# Altium footprint library HD_SAMPLE_V1.4.PcbLib: 21 footprints (part 1 of 2)
Each footprint in its own frame and in the unit in brackets; x right, y up, seen from the top. Pads: shape width x height; smd on the part's side, far side on the other; paste and mask are expansions set on the pad; w line width, h text height; cw(c..) or ccw(c..) is an arc to the next point about the centre after c.
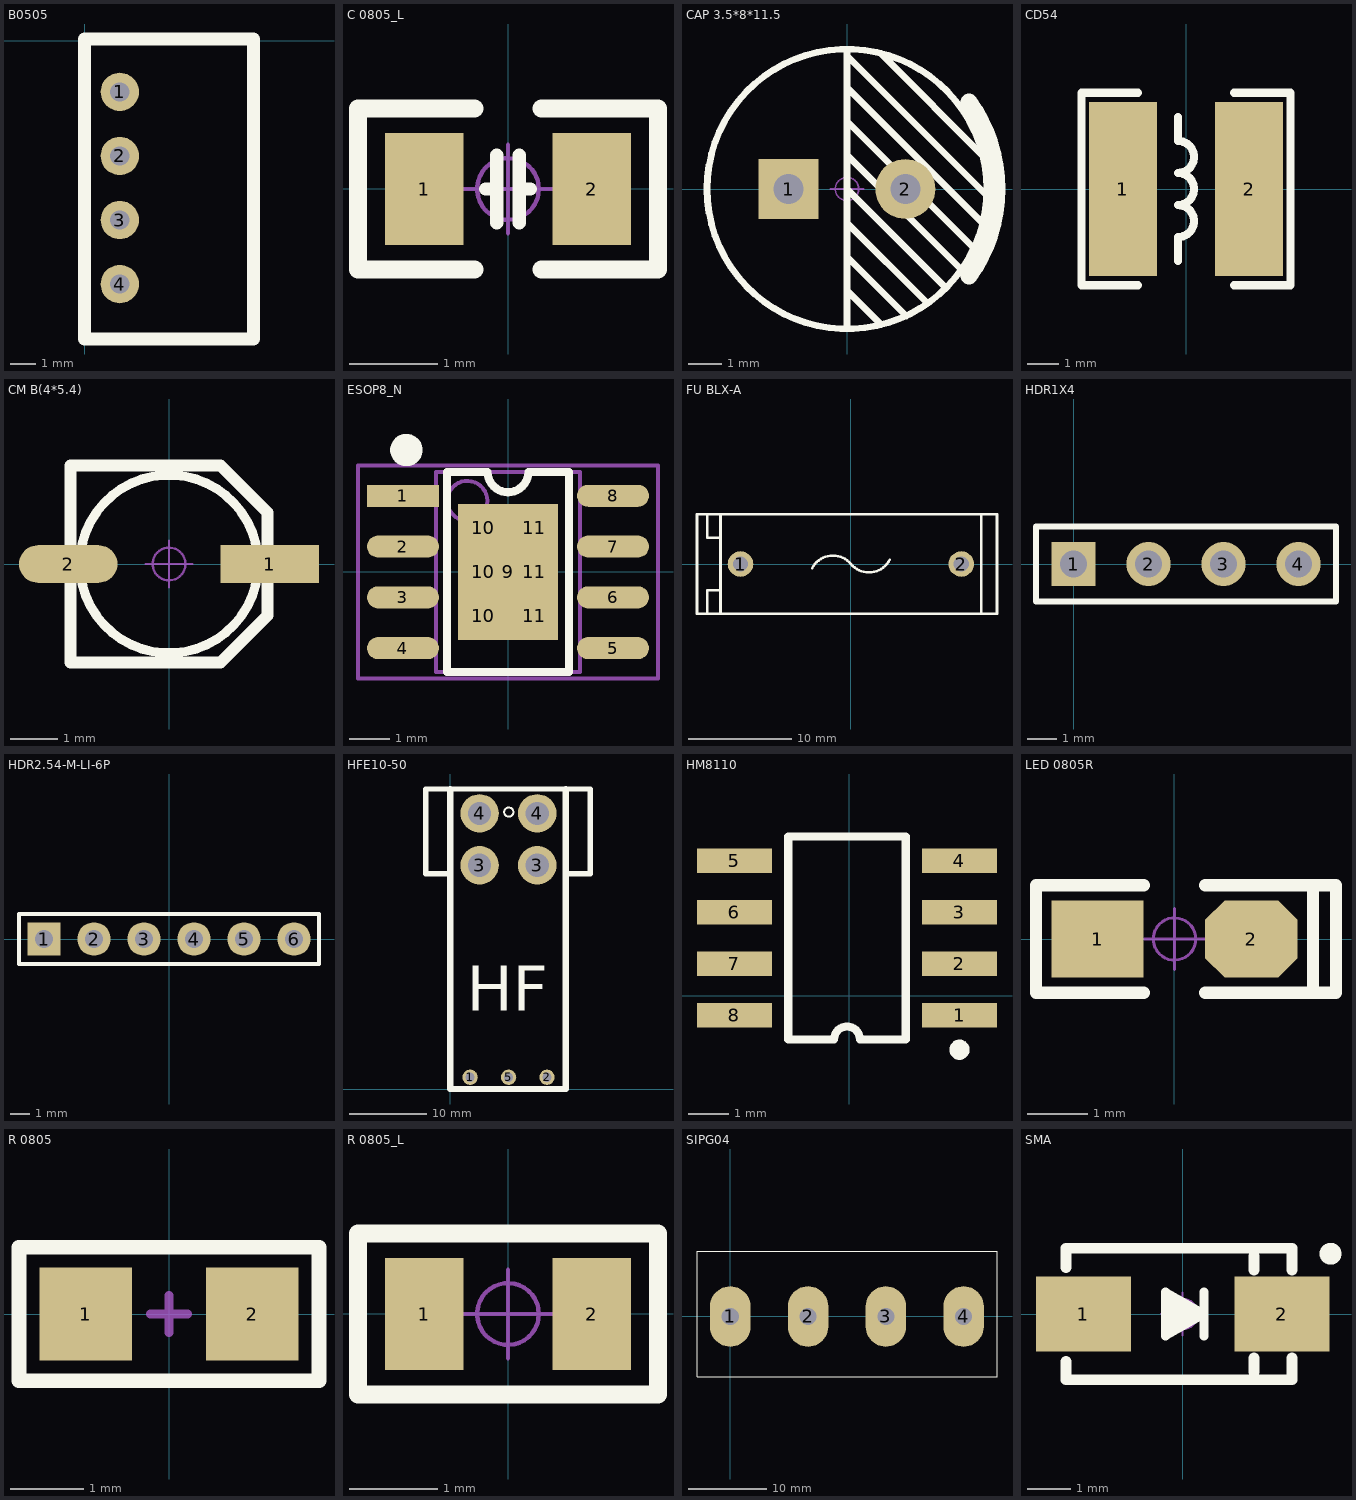
[diagram p0: the footprints below, top view; thin cyan lines are the x and y axes]

## B0505 [mil]
pads (4):
  round 60 hole 30: 1(55,-80) 2(55,-180) 3(55,-280) 4(55,-380)
Top Overlay:
  lines w19.68: -0.12,-465.83 263.66,-465.83 263.66,2.68 -0.12,2.68 -0.12,-465.83
3D body: height 379.92, standoff 0, extent -5,-470 265,0

## C 0805_L [mil] "无极性贴片电容                                        淘宝ID:黄晶宝石"
height 19.68
pads (2):
  rect 35x50 smd: 1(-37.4,0) 2(37.4,0)
Top Overlay:
  lines w6: -10,0 -5,0 ; -5,-15 -5,15 ; 5,-15 5,15 ; 5,0 10,0
  lines w8: -15,-36 -66.93,-36 -66.93,36 -15,36 ; 15,-36 66.93,-36 66.93,36 15,36
Mechanical 15:
  circle w1.97: c0,0 r13.78
  circle w1.97: c0,0 r13.78
  lines w1.97: -19.68,0 19.68,0 -19.68,0 ; 0,-19.68 0,19.68 0,-19.68
3D body "C 0805.STEP": height 20.08, standoff -0.39, extent -39.37,-24.02 39.37,24.02

## CAP 3.5*8*11.5 [mm] "脚距3.5mm直径8mm高度11.5mm"
pads (2):
  rect 1.8x1.8 hole 0.9: 1(-1.75,0)
  round 1.8 hole 0.9: 2(1.75,0)
Top Overlay:
  circle w0.2: c0,0 r4.2
  lines w0.2: 0,-4.191 0,4 ; 0,-3.048 1.016,-4.064 ; 0,-2.032 1.778,-3.81 ; 0,-1.016 2.413,-3.429 ; 0,0 2.921,-2.921 ; 0,1.016 3.429,-2.413 ; 0,2.032 3.81,-1.778 ; 0,3.048 4.064,-1.016 ; 0,4.191 0,4 ; 1.016,4.064 4.191,0.889 ; 4.191,-0.127 4.127,-0.127 0,4
  lines w0.504: 3.663,-2.616 ccw(c0,0) 3.663,2.616
Mechanical 15:
  circle w0.05: c0,0 r0.35
  lines w0.05: -0.5,0 0.5,0 ; 0,-0.5 0,0.5
3D body "CAP 3.5X8X11.5.STEP": height 11.53, standoff -3.38, extent -4,-4 4.01,4

## CD54 [mm] "5.8*5.2*4.5mm（长宽高）        淘宝ID:黄晶宝石"
height 2.54
pads (2):
  rect 2.15x5.5 smd: 1(-2,0) 2(2,0)
Top Overlay:
  lines w0.254: -1.524,-3.048 -3.302,-3.048 -3.302,3.048 -1.524,3.048 ; -0.254,-2.286 -0.254,-1.524 ccw(c-0.254,-1.016) -0.254,-0.508 ccw(c-0.254,0) -0.254,0.508 ccw(c-0.254,1.016) -0.254,1.524 -0.254,2.286 ; 1.524,-3.048 3.302,-3.048 3.302,3.048 1.524,3.048
3D body "CD54.STEP": height 4, standoff 0, extent -2.874,-2.5 2.874,2.5

## CM B(4*5.4) [mm] "贴片电解电容，直径4mm，高5.4mm"
height 2.54
pads (2):
  rect 2.1x0.8 smd: 1(2.15,0)
  oval 2.1x0.8 smd: 2(-2.15,0)
Top Overlay:
  circle w0.2: c0,0 r1.9
  lines w0.254: -2.1,-2.1 1.1,-2.1 2.1,-1.1 2.1,1.1 1.1,2.1 -2.1,2.1 -2.1,-2.1
Mechanical 15:
  circle w0.05: c0,0 r0.35
  lines w0.05: -0.5,0 0.5,0 ; 0,-0.5 0,0.5
3D body "CM B(4X5.4).STEP": height 5.4, standoff -0.01, extent -2.3,-2.125 2.3,2.175

## ESOP8_N [mm] "5*6*1.8mm（长宽高）"
height 1.75
pads (15):
  rect 1.8x0.55 smd: 1(-2.625,1.905)
  oval 1.8x0.55 smd: 2(-2.625,0.635) 3(-2.625,-0.635) 4(-2.625,-1.905) 5(2.625,-1.905) 6(2.625,-0.635) 7(2.625,0.635) 8(2.625,1.905)
  rect 2.5x3.4 smd paste-2: 9(0,0)
  rect 0.9x0.7 on Top Paste: 10(-0.625,-1.1) 10(-0.625,0) 10(-0.625,1.1) 11(0.65,-1.1) 11(0.65,0) 11(0.65,1.1)
Top Overlay:
  circle w0.5: c-2.54,3.048 r0.155
  lines w0.2: -1.524,2.5 -1.524,-2.5 1.524,-2.5 1.524,2.5
  lines w0.203: -1.524,2.5 -0.508,2.5 ccw(c0,2.5) 0,1.992 ccw(c0,2.5) 0.508,2.5 1.524,2.5
Mechanical 13:
  circle w0.1: c-1.016,1.778 r0.5
  lines w0.1: -1.8,-2.5 1.8,-2.5 1.8,2.5 -1.8,2.5 -1.8,-2.5
Mechanical 15:
  circle w0.05: c0,0 r0.35
  lines w0.05: -0.5,0 0.5,0 ; 0,-0.5 0,0.5
  lines w0.1: -3.75,-2.667 -3.75,2.667 3.75,2.667 3.75,-2.667 -3.75,-2.667
3D body "ESOP8.STEP": height 1.53, standoff -0.01, extent -3.003,-2.5 3.003,2.5

## FU BLX-A [mm] "BLX-A型保险丝座"
pads (2):
  round 2.5 hole 1.5: 1(-10.75,0) 2(10.75,0)
Top Overlay:
  lines w0.254: -12.7,-4.826 -12.7,-2.54 ; -12.7,4.826 -12.7,2.54 ; -3.782,-0.419 cw(c-1.751,-1.469) 0,0 ccw(c1.751,1.469) 3.782,0.419 ; 12.446,-4.826 14.224,-4.826 14.224,4.826 12.7,4.826 ; -13.97,-4.826 -14.986,-4.826 -14.986,4.826 -13.97,4.826 ; -13.97,-4.826 12.7,-4.826 12.7,4.826 ; -13.97,-4.826 -13.97,-2.54 -12.7,-2.54 ; -13.97,4.826 12.7,4.826 ; -13.97,4.826 -13.97,2.54 -12.7,2.54 ; -12.7,-2.54 -12.7,2.54
3D body "FU BLX_A.STEP": height 13.9, standoff -3.6, extent -15.05,-4.75 14.299,4.75

## HDR1X4 [mm] "Connector; Header; 4 Position"
height 1.1
pads (4):
  rect 1.5x1.5 hole 0.9: 1(0,0)
  round 1.5 hole 0.9: 2(2.54,0) 3(5.08,0) 4(7.62,0)
Top Overlay:
  lines w0.2: -1.27,-1.27 8.89,-1.27 8.89,1.27 -1.27,1.27 -1.27,-1.27

## HDR2.54-M-LI-6P [mm] "排母，6脚  淘宝ID:黄晶宝石   店铺网址:https://shop463601444.taobao.com"
pads (6):
  rect 1.7x1.7 hole 0.9: 1(-6.35,0)
  round 1.7 hole 0.9: 2(-3.81,0) 3(-1.27,0) 4(1.27,0) 5(3.81,0) 6(6.35,0)
Top Overlay:
  lines w0.2: -7.62,-1.27 7.62,-1.27 7.62,1.27 -7.62,1.27 -7.62,-1.27
3D body "HDR2.54-1P_M.STEP": height 8.5, standoff -3, extent -2.54,-1.27 0,1.27
3D body "HDR2.54-1P_M.STEP": height 8.5, standoff -3, extent -7.62,-1.27 -5.08,1.27
3D body "HDR2.54-1P_M.STEP": height 8.5, standoff -3, extent -5.08,-1.27 -2.54,1.27
3D body "HDR2.54-1P_M.STEP": height 8.5, standoff -3, extent 5.08,-1.27 7.62,1.27
3D body "HDR2.54-1P_M.STEP": height 8.5, standoff -3, extent 0,-1.27 2.54,1.27
3D body "HDR2.54-1P_M.STEP": height 8.5, standoff -3, extent 2.54,-1.27 5.08,1.27

## HFE10-50 [mm]
height 2.54
pads (7):
  round 2 hole 1.2: 1(2.573,1.524) 2(12.573,1.524) 5(7.573,1.524)
  round 5 hole 3: 3(3.803,29.083) 3(11.303,29.083) 4(3.803,35.833) 4(11.303,35.833)
Top Overlay:
  circle w0.254: c7.6,36 r0.6
  lines w0.7: 0,28 -3.2,28 -3.2,39 0,39 15,39 18.2,39 18.2,28 15,28
  lines w0.8: 0,39 0,0 15,0 15,39
  text "HF" at 2.159,8.255 h10
3D body: height 1, standoff -2, extent 2.811,28.085 4.803,30.081
3D body: height 1, standoff -2, extent 10.311,34.835 12.303,36.831
3D body: height 1.5, standoff -1.5, extent 12.176,1.125 12.973,1.923
3D body: height 1.5, standoff -1.5, extent 7.176,1.125 7.973,1.923
3D body: height 1.5, standoff -1.5, extent 2.176,1.125 2.973,1.923

## HM8110 [mm]
height 2.54
pads (8):
  rect 1.85x0.6 smd: 1(2.718,-0.483) 2(2.718,0.787) 3(2.718,2.057) 4(2.718,3.327) 5(-2.832,3.327) 6(-2.832,2.057) 7(-2.832,0.787) 8(-2.832,-0.483)
Top Overlay:
  circle w0.25: c2.718,-1.333 r0.125
  lines w0.2: -1.507,-1.078 -0.375,-1.078 cw(c-0.057,-1.078) 0.26,-1.078 1.393,-1.078 1.393,3.922 -1.507,3.922 -1.507,-1.078

## LED 0805R [mil] "红色0805LED                                       淘宝ID:黄晶宝石"
height 100
pads (2):
  rect 60x50 smd: 1(-50,0)
  oct 60x50 smd: 2(50,0)
Top Overlay:
  lines w8: -20,-35 -90,-35 -90,35 -20,35 ; 20,-35 105,-35 105,35 20,35 ; 90,-35 90,35
Mechanical 15:
  circle w1.97: c0,0 r13.78
  lines w1.97: -19.68,0 19.68,0 ; 0,-19.68 0,19.68
3D body "LED 0805玻璃罩.ST": height 31.69, standoff 12.01, extent -29.49,-24.65 29.49,24.65
3D body "LED 0805-R.STEP": height 26.33, standoff -0.16, extent -39.37,-24.65 39.37,24.64

## R 0805 [mil] "1/8W贴片电阻"
pads (2):
  rect 50x50 smd: 1(-45,0) 2(45,0)
Top Overlay:
  lines w8: -81,-36 81,-36 81,36 -81,36 -81,-36
Mechanical 15:
  lines w5: -10,0 10,0 ; 0,-10 0,10
3D body "R 0805.STEP": height 19.72, standoff -0.24, extent -39.37,-24.6 39.37,24.61

## R 0805_L [mil] "1/8W贴片电阻"
height 100
pads (2):
  rect 35x50 smd: 1(-37.4,0) 2(37.4,0)
Top Overlay:
  lines w8: -66.93,-36 66.93,-36 66.93,36 -66.93,36 -66.93,-36
Mechanical 15:
  circle w1.97: c0,0 r13.78
  lines w1.97: -19.68,0 19.68,0 ; 0,-19.68 0,19.68
3D body "R 0805.STEP": height 19.72, standoff -0.24, extent -39.37,-24.6 39.37,24.61

## SIPG04 [mm] "淘宝ID:黄晶宝石"
height 2.54
pads (4):
  oval 5.2x7.8 hole 2.2: 1(0,0) 2(10,0) 3(20,0) 4(30,0)
Top Overlay:
  lines w0.15: -4.279,-7.739 34.29,-7.739 34.29,8.381 -4.279,8.381 -4.279,-7.739

## SMA [mm] "4.5x2.6*2.2mm（长宽高，不包括引脚）"
height 2.54
pads (2):
  rect 2.2x1.75 smd: 1(-2.3,0) 2(2.3,0)
Top Overlay:
  circle w0.254: c3.429,1.397 r0.127
  lines w0.203: 0.494,-0.508 0.494,0.508 ; -0.395,-0.508 0.494,0 -0.395,0.508 -0.395,-0.508
  lines w0.254: -2.7,-1.105 -2.7,-1.524 2.54,-1.524 2.54,-1.016 ; -2.7,1.08 -2.7,1.524 2.54,1.524 2.54,1.016 ; -0.33,0.305 0.305,0 -0.254,-0.305 -0.254,0.051 0.023,0 ; 1.651,-1.35 1.651,-1.016 ; 1.651,1.016 1.651,1.35
Mechanical 15:
  circle w0.05: c0,0 r0.35
  lines w0.05: -0.5,0 0.5,0 ; 0,-0.5 0,0.5
3D body "SMA.STEP": height 2.15, standoff 0.04, extent -2.528,-1.3 2.575,1.3